# Altium footprint library CAPC2012X95N.PCBLib: 1 footprints
Each footprint in its own frame and in the unit in brackets; x right, y up, seen from the top. Pads: shape width x height; smd on the part's side, far side on the other; paste and mask are expansions set on the pad; w line width, h text height; cw(c..) or ccw(c..) is an arc to the next point about the centre after c.
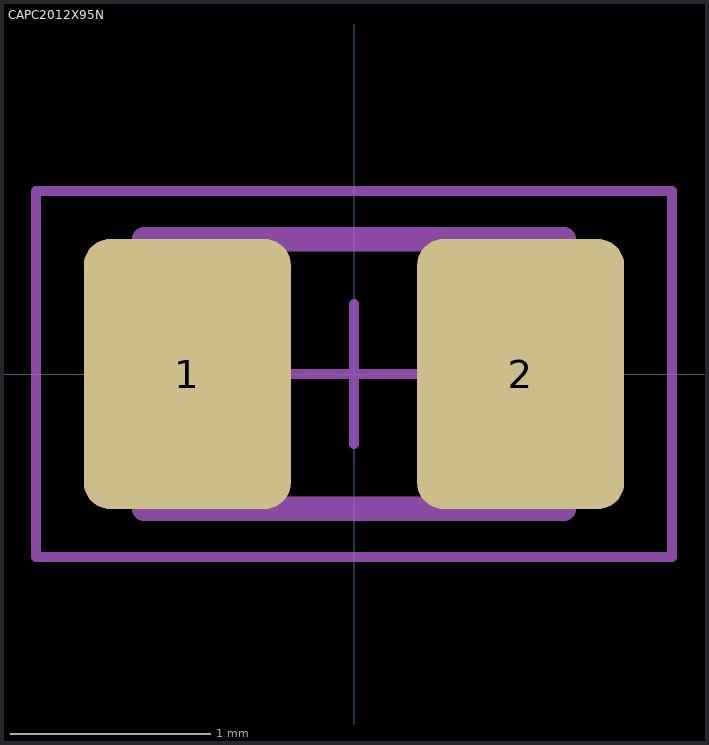
[diagram p0: the footprint, top view; thin cyan lines are the x and y axes]

## CAPC2012X95N [mm] "Capacitor, Chip; 2.00 mm L X 1.25 mm W X 0.95 mm H body 0805 (2012 Metric)"
height 0.95
pads (2):
  rrect25% 1.034x1.35 smd: 1(-0.833,0) 2(0.833,0)
Mechanical 13:
  lines w0.025: -1,-0.625 -0.5,-0.625 -0.5,0.625 -1,0.625 ; -1,-0.625 -1,0.625 ; -1,-0.625 -1,0.625 ; -1,-0.625 1,-0.625 ; -1,0.625 1,0.625 ; 1,-0.625 1,0.625 ; 1,-0.625 0.5,-0.625 0.5,0.625 1,0.625 ; 1,-0.625 1,0.625
  lines w0.12: -1.05,-0.675 -1.05,0.675 1.05,0.675 1.05,-0.675 -1.05,-0.675
Mechanical 15:
  lines w0.05: -0.35,0 0.35,0 ; 0,-0.35 0,0.35 ; -1.59,-0.915 -1.59,0.915 1.59,0.915 1.59,-0.915 -1.59,-0.915
3D body: height 0.95, standoff 0.05, extent -1.016,-0.625 -0.5,0.625
3D body: height 0.95, standoff 0.05, extent -0.508,-0.635 0.5,0.625
3D body: height 0.95, standoff 0.05, extent 0.5,-0.625 1.016,0.625